# Altium schematic symbol library Filter.SchLib: 14 symbols
Pins are listed as number, name and electrical type; pins without a type are passive.

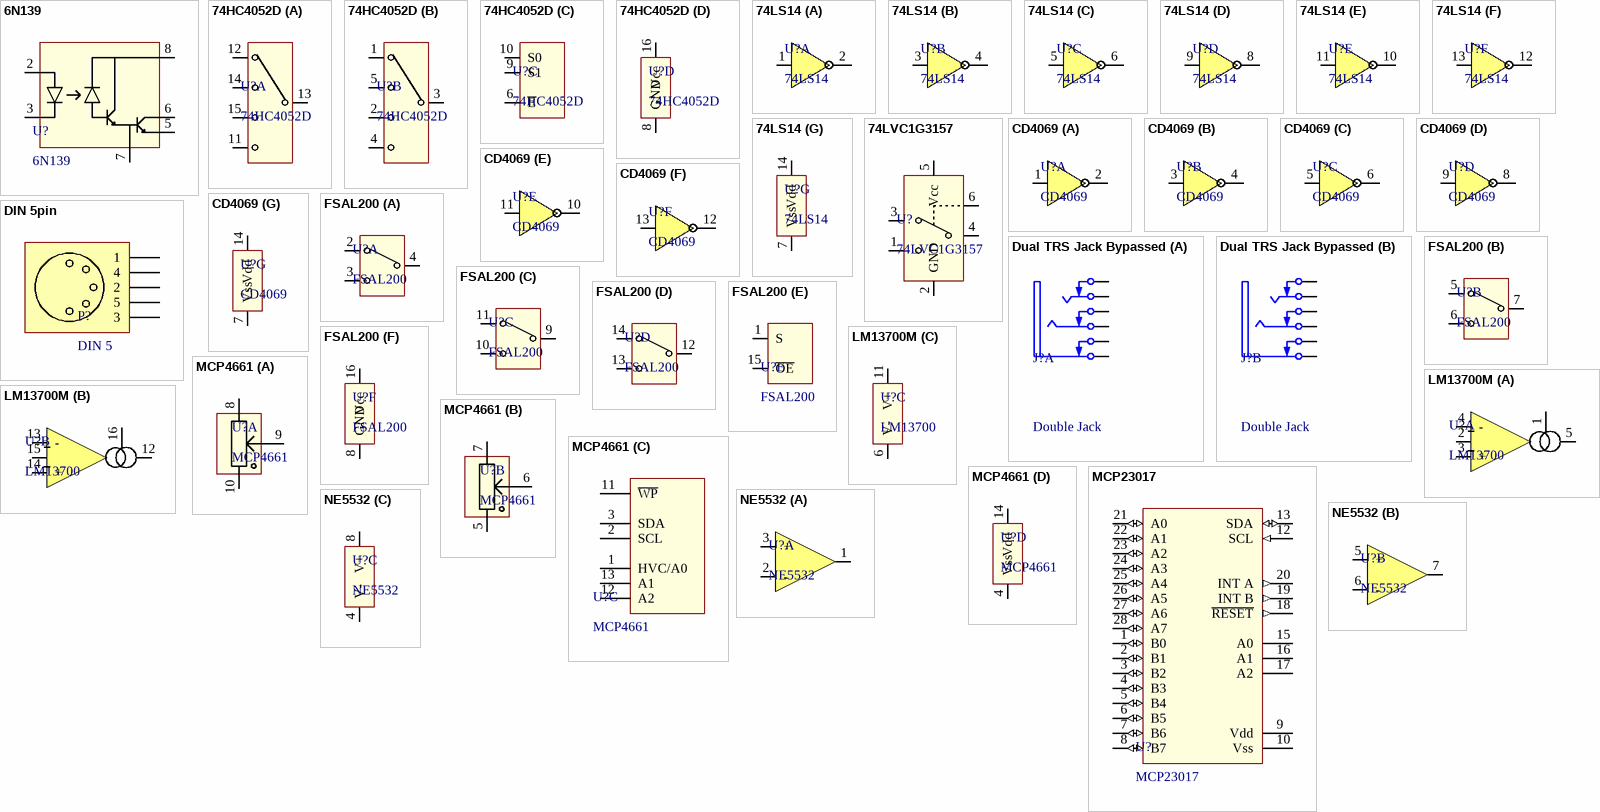
[diagram p0: symbols 6N139 to NE5532]

## 6N139
designator U?
Optocoupler
pins: 2 B2, 3 B1, 5 B1, 6 B1, 7 B1, 8 B1

## 74HC4052D
designator U?
Dual 4:1 Multiplexer
part A pins: 11 1Y3, 12 1Y0, 13 1Z, 14 1Y1, 15 1Y2
part B pins: 1 2Y0, 2 2Y2, 3 2Z, 4 2Y3, 5 2Y1
part C pins: 6 ~{E}, 9 S1, 10 S0
part D pins: 8 GND (power), 16 Vcc (power)

## 74LS14
designator U?
Hex Inverter
part A pins: 1 A, 2 ~{A}
part B pins: 3 B, 4 ~{B}
part C pins: 5 C, 6 ~{C}
part D pins: 8 ~{D}, 9 D
part E pins: 10 ~{E}, 11 E
part F pins: 12 ~{F}, 13 F
part G pins: 7 Vss (power), 14 Vdd (power)

## 74LVC1G3157
designator U?
Single 2:1 Multiplexer
pins: 1 B2, 2 GND (power), 3 B1, 4 A, 5 Vcc (power), 6 S

## CD4069
designator U?
Hex Inverter
part A pins: 1 A, 2 ~{A}
part B pins: 3 B, 4 ~{B}
part C pins: 5 C, 6 ~{C}
part D pins: 8 ~{D}, 9 D
part E pins: 10 ~{E}, 11 E
part F pins: 12 ~{F}, 13 F
part G pins: 7 Vss (power), 14 Vdd (power)

## DIN 5pin
designator P?, comment DIN 5
DIN 5pin
pins: 1, 2, 3, 4, 5

## Dual TRS Jack Bypassed
designator J?, comment Double Jack
Dual Jack stereo bypassed; PackageDocument: 2003; PCB_Layout: Complies with manufacturer's recommendation.; DrillAndSlotSize: Corresponds to nominal value.; Published: 15-Jul-2004; DatasheetDocument: 2003; PackageReference: S1VS_SBS; Publisher: Altium Limited; ComponentLink1Description: Manufacturer Link; ComponentLink1URL: http://www.cliffuk.co.uk/
footprint JACK/6-V4A (Connector; Jack Socket, 1/4" [6.5mm], Thru-Hole, 4 Position, Vertical, Body 15.7 x 15.7 x 31 mm (WxTxH))
signal-integrity model JACK Socket
part A pins: 7 SB "Ring Normal (Break Contact)", 8 RB "Ring Normal (Break Contact)", 9 TB "Ring Normal (Break Contact)", 10 S (power) "Sleeve (Ground)", 11 R "Ring/Right Channel/(-)", 12 T "Tip/Left Channel/(+)"
part B pins: 1 SB "Ring Normal (Break Contact)", 2 RB "Ring Normal (Break Contact)", 3 TB "Ring Normal (Break Contact)", 4 S (power) "Sleeve (Ground)", 5 R "Ring/Right Channel/(-)", 6 T "Tip/Left Channel/(+)"

## FSAL200
designator U?
Quad 2:1 Multiplexer
part A pins: 2 B1, 3 B2, 4 A
part B pins: 5 B1, 6 B2, 7 A
part C pins: 9 A, 10 B2, 11 B1
part D pins: 12 A, 13 B2, 14 B1
part E pins: 1 S, 15 ~{OE}
part F pins: 8 GND (power), 16 Vcc (power)

## LM13700M
designator U?, comment LM13700
Dual Transconductance OpAmp
part A pins: 1 BIAS, 2 Diode BIAS, 3 +, 4 -, 5 OUT
part B pins: 12 OUT, 13 -, 14 +, 15 Diode BIAS, 16 BIAS
part C pins: 6 V- (power), 11 V+ (power)

## MCP4661
designator U?
Dual DigiPot non volatile I2C
part A pins: 8 P0A, 9 P0W, 10 P0B
part B pins: 5 P1B, 6 P1W, 7 P1A
part C pins: 1 HVC/A0 (power), 2 SCL, 3 SDA, 11 ~{WP}, 12 A2 (power), 13 A1 (power)
part D pins: 4 Vss (power), 14 Vdd (power)

## MCP23017
designator U?
16b I/O Expander
pins: 1 B0 (io), 2 B1 (io), 3 B2 (io), 4 B3 (io), 5 B4 (io), 6 B5 (io), 7 B6 (io), 8 B7 (io), 9 Vdd (power), 10 Vss (power), 12 SCL (in), 13 SDA (io), 15 A0, 16 A1, 17 A2, 18 ~{RESET} (out), 19 INT B (out), 20 INT A (out), 21 A0 (io), 22 A1 (io), 23 A2 (io), 24 A3 (io), 25 A4 (io), 26 A5 (io), 27 A6 (io), 28 A7 (io)

## NE5532
designator U?
Dual Audio OpAmp
part A pins: 1 OUT, 2 -, 3 +
part B pins: 5 +, 6 -, 7 OUT
part C pins: 4 V- (power), 8 V+ (power)

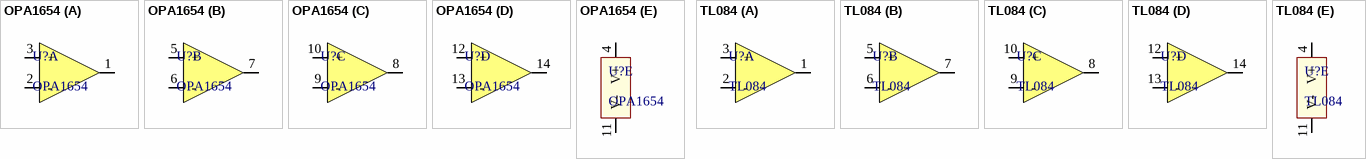
[diagram p1: symbols OPA1654 to TL084]

## OPA1654
designator U?
Quad Audio OpAmp
part A pins: 1 OUT, 2 -, 3 +
part B pins: 5 +, 6 -, 7 OUT
part C pins: 8 OUT, 9 -, 10 +
part D pins: 12 +, 13 -, 14 OUT
part E pins: 4 V+ (power), 11 V- (power)

## TL084
designator U?
Quad Audio OpAmp
part A pins: 1 OUT, 2 -, 3 +
part B pins: 5 +, 6 -, 7 OUT
part C pins: 8 OUT, 9 -, 10 +
part D pins: 12 +, 13 -, 14 OUT
part E pins: 4 V+ (power), 11 V- (power)